# EAGLE library part OPAMP-INA326 (library eagleLib v2)
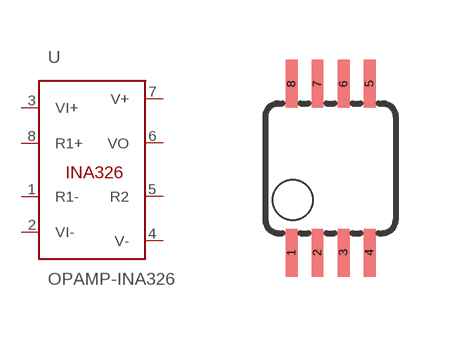
[diagram p40: symbol with the pads of MSOP08; footprint MSOP08]

Designator prefix -

## OPAMP-INA326  [MSOP08]
1  R1-
2  VI-
3  VI+
4  V-
5  R2
6  VO
7  V+
8  R1+

## Footprint MSOP08 (pad centres in mm)
Mini Small Outline Package
smd 0.3 x 1.2: 1 -0.976,-2.113; 2 -0.326,-2.113; 3 0.324,-2.113; 4 0.974,-2.113; 5 0.974,2.112; 6 0.324,2.112; 7 -0.326,2.112; 8 -0.976,2.112